# Altium footprint library Bumpless CSP.PcbLib: 1 footprints
Each footprint in its own frame and in the unit in brackets; x right, y up, seen from the top. Pads: shape width x height; smd on the part's side, far side on the other; paste and mask are expansions set on the pad; w line width, h text height; cw(c..) or ccw(c..) is an arc to the next point about the centre after c.
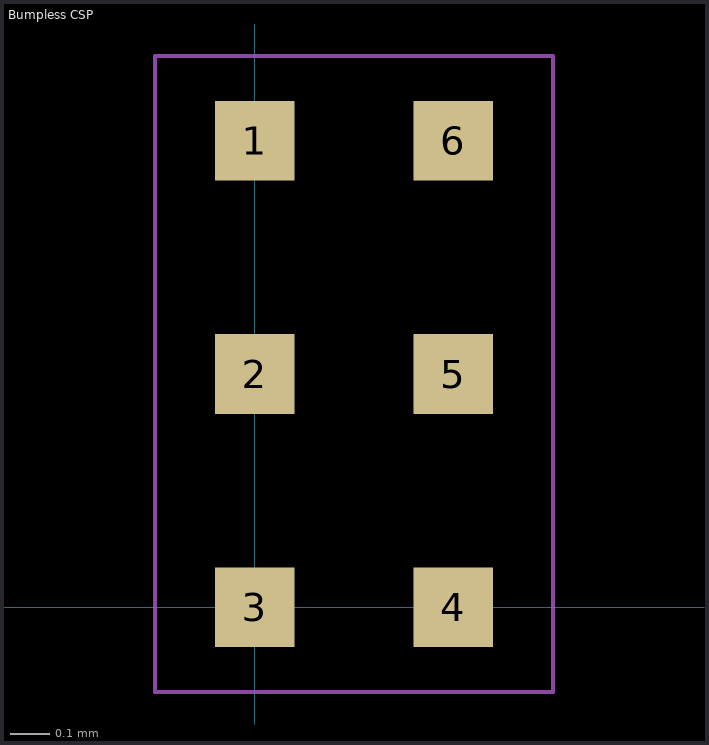
[diagram p0: the footprint, top view; thin cyan lines are the x and y axes]

## Bumpless CSP [mm] "1.6x1.0mm"
height 0.4
pads (6):
  rect 0.2x0.2 smd: 1(0,1.174) 2(0,0.587) 3(0,0) 4(0.5,0) 5(0.5,0.587) 6(0.5,1.174)
Mechanical 1:
  lines w0.01: -0.25,-0.213 0.75,-0.213 0.75,1.387 -0.25,1.387 -0.25,-0.213
3D body: height 0.43, standoff 0.01, extent -0.25,-0.213 0.75,1.387